# EAGLE library part NHD-12864WG (library Opto-electronics > Displays)
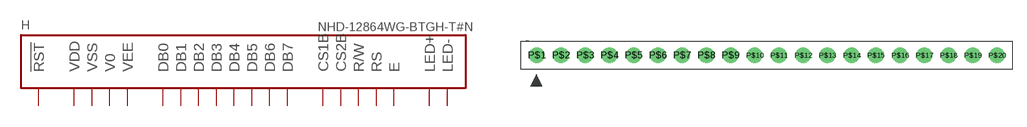
[diagram p0: symbol with the pads of 1X20_2.54; footprint 1X20_2.54]

Designator prefix H

## NHD-12864WG  [1X20_2.54]
P$1  VDD
P$2  VSS
P$3  V0
P$4  DB0
P$5  DB1
P$6  DB2
P$7  DB3
P$8  DB4
P$9  DB5
P$10  DB6
P$11  DB7
P$12  CS1B
P$13  CS2B
P$14  !RST!
P$15  R/W
P$16  RS
P$17  E
P$18  VEE
P$19  LED+
P$20  LED-

## Footprint 1X20_2.54 (pad centres in mm)
drill 1.1: P$1 -22.86,0; P$2 -20.32,0; P$3 -17.78,0; P$4 -15.24,0; P$5 -12.7,0; P$6 -10.16,0; P$7 -7.62,0; P$8 -5.08,0; P$9 -2.54,0; P$10 0,0; P$11 2.54,0; P$12 5.08,0; P$13 7.62,0; P$14 10.16,0; P$15 12.7,0; P$16 15.24,0; P$17 17.78,0; P$18 20.32,0; P$19 22.86,0; P$20 25.4,0